# Altium footprint library HC-PM254-8.5H-2x10PS.PcbLib: 1 footprints
Each footprint in its own frame and in the unit in brackets; x right, y up, seen from the top. Pads: shape width x height; smd on the part's side, far side on the other; paste and mask are expansions set on the pad; w line width, h text height; cw(c..) or ccw(c..) is an arc to the next point about the centre after c.
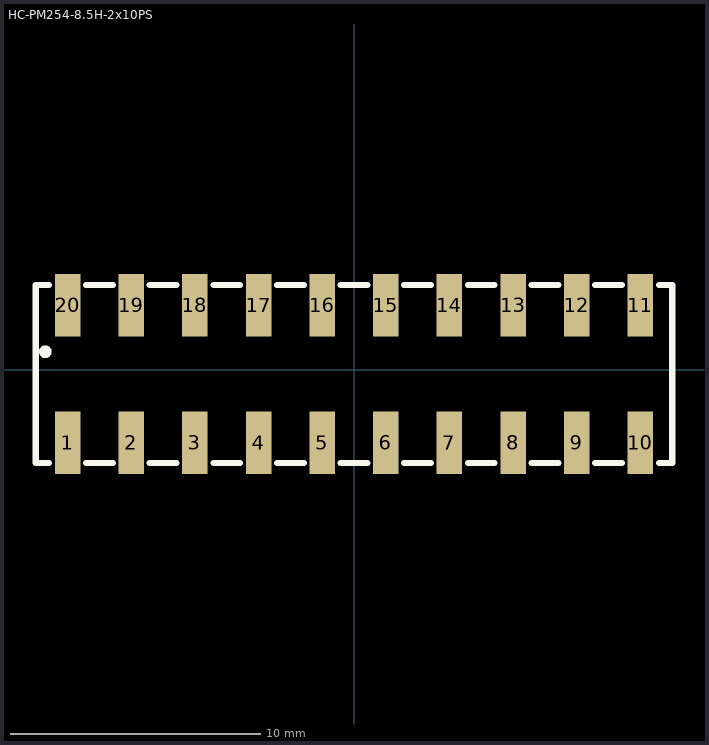
[diagram p0: the footprint, top view; thin cyan lines are the x and y axes]

## HC-PM254-8.5H-2x10PS [mm]
pads (20):
  rect 1.02x2.5 smd: 1(-11.43,-2.921) 2(-8.89,-2.921) 3(-6.35,-2.921) 4(-3.81,-2.921) 5(-1.27,-2.921) 6(1.27,-2.921) 7(3.81,-2.921) 8(6.35,-2.921) 9(8.89,-2.921) 10(11.43,-2.921) 11(11.43,2.579) 12(8.89,2.579) 13(6.35,2.579) 14(3.81,2.579) 15(1.27,2.579) 16(-1.27,2.579) 17(-3.81,2.579) 18(-6.35,2.579) 19(-8.89,2.579) 20(-11.43,2.579)
Top Overlay:
  circle w0.254: c-12.319,0.718 r0.127
  lines w0.254: -12.171,-3.721 -12.7,-3.721 -12.7,3.379 -12.171,3.379 ; -10.689,-3.721 -9.631,-3.721 ; -10.689,3.379 -9.631,3.379 ; -8.149,-3.721 -7.091,-3.721 ; -8.149,3.379 -7.091,3.379 ; -5.609,-3.721 -4.551,-3.721 ; -5.609,3.379 -4.551,3.379 ; -3.069,-3.721 -2.011,-3.721 ; -3.069,3.379 -2.011,3.379 ; -0.529,-3.721 0.529,-3.721 ; -0.529,3.379 0.529,3.379 ; 2.011,-3.721 3.069,-3.721 ; 2.011,3.379 3.069,3.379 ; 4.551,-3.721 5.609,-3.721 ; 4.551,3.379 5.609,3.379 ; 7.091,-3.721 8.149,-3.721 ; 7.091,3.379 8.149,3.379 ; 9.631,-3.721 10.689,-3.721 ; 9.631,3.379 10.689,3.379 ; 12.171,-3.721 12.7,-3.721 12.7,3.379 12.171,3.379